# Altium schematic symbol library PJ1-021-SMT-TR.SchLib: 1 symbol
Pins are listed as number, name and electrical type; pins without a type are passive.

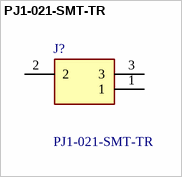
[diagram p0: symbol PJ1-021-SMT-TR]

## PJ1-021-SMT-TR
designator J?
1.65 x 5.15 mm, 5.0 A, Horizontal, Surface Mount (SMT), Dc Power Jack Connector; Manufacturer_Name: Same Sky; Geometry.Height: 6mm; Manufacturer_Part_Number: PJ1-021-SMT-TR; Mouser Part Number: 490-PJ1-021-SMT-TR; Mouser Price/Stock: https://www.mouser.co.uk/ProductDetail/Same-Sky/PJ1-021-SMT-TR?qs=WyjlAZoYn506c0%252BNiPlnfA%3D%3D; Arrow Part Number: PJ1-021-SMT-TR; Arrow Price/Stock: https://www.arrow.com/en/products/pj1-021-smt-tr/cui-devices?region=nac; Datasheet Link: https://www.sameskydevices.com/product/resource/supplyframepdf/pj1-021-smt-tr.pdf
footprint PJ1021SMTTR
pins: 1, 2, 3